# Altium footprint library PCB_LIB.PcbLib: 16 footprints
Each footprint in its own frame and in the unit in brackets; x right, y up, seen from the top. Pads: shape width x height; smd on the part's side, far side on the other; paste and mask are expansions set on the pad; w line width, h text height; cw(c..) or ccw(c..) is an arc to the next point about the centre after c.
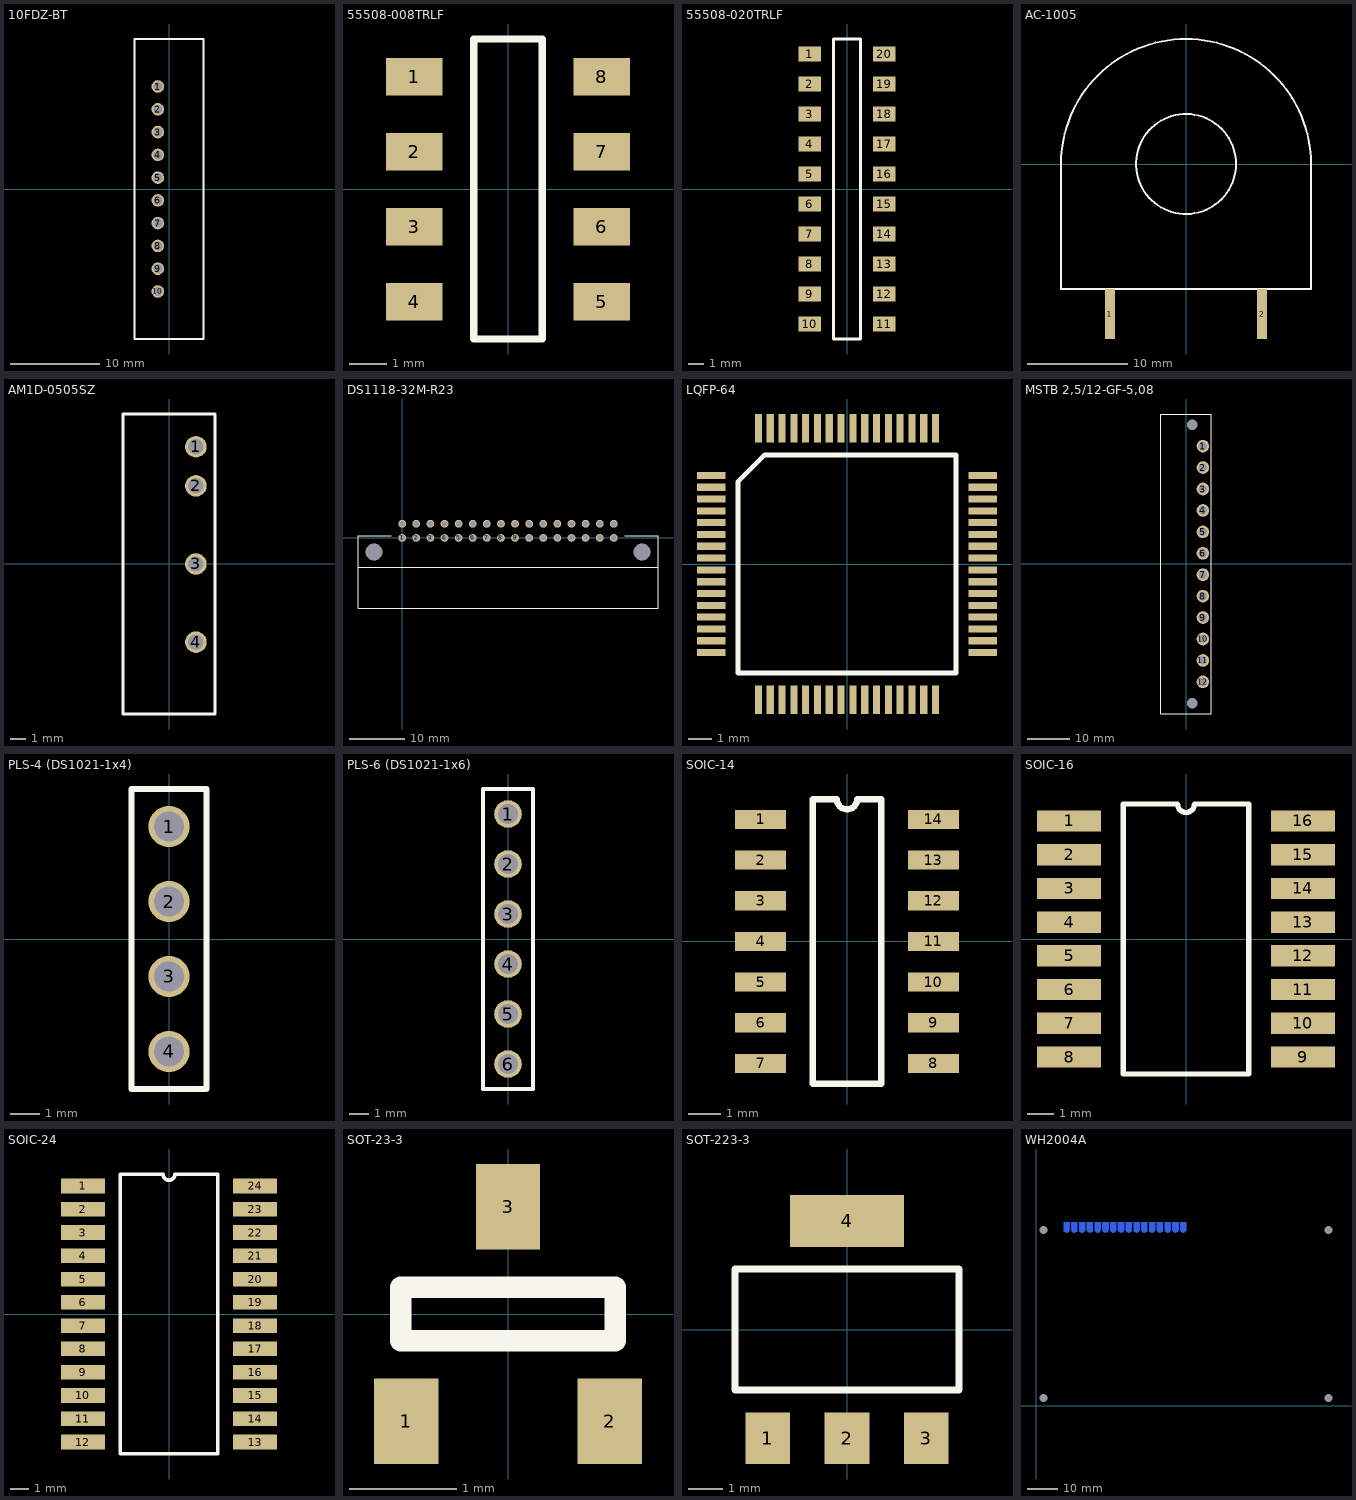
[diagram p0: the footprints below, top view; thin cyan lines are the x and y axes]

## 10FDZ-BT [mm] "10FDZ-BT"
pads (10):
  round 1.4 hole 1: 1(-1.25,11.43) 2(-1.25,8.89) 3(-1.25,6.35) 4(-1.25,3.81) 5(-1.25,1.27) 6(-1.25,-1.27) 7(-1.25,-3.81) 8(-1.25,-6.35) 9(-1.25,-8.89) 10(-1.25,-11.43)
Top Overlay:
  lines w0.2: -3.85,-16.73 3.85,-16.73 3.85,16.73 -3.85,16.73 -3.85,-16.73
3D body "10FDZ-BT.STEP": height 11.71, standoff -1.99, extent -3.85,-18.13 3.85,18.13

## 55508-008TRLF [mm] "55508-008TRLF"
pads (8):
  rect 1.5x1 smd: 1(-2.5,3) 2(-2.5,1) 3(-2.5,-1) 4(-2.5,-3) 5(2.5,-3) 6(2.5,-1) 7(2.5,1) 8(2.5,3)
Top Overlay:
  lines w0.2: -0.915,-4 -0.915,4 0.915,4 0.915,-4 -0.915,-4
3D body "55508-004TRLF.STEP": height 2.31, standoff 0.01, extent -3,0 3,3.92
3D body "55508-004TRLF.STEP": height 2.31, standoff 0.01, extent -3,-3.92 3,0

## 55508-020TRLF [mm] "55508-020TRLF"
pads (20):
  rect 1.5x1 smd: 1(-2.5,9) 2(-2.5,7) 3(-2.5,5) 4(-2.5,3) 5(-2.5,1) 6(-2.5,-1) 7(-2.5,-3) 8(-2.5,-5) 9(-2.5,-7) 10(-2.5,-9) 11(2.5,-9) 12(2.5,-7) 13(2.5,-5) 14(2.5,-3) 15(2.5,-1) 16(2.5,1) 17(2.5,3) 18(2.5,5) 19(2.5,7) 20(2.5,9)
Top Overlay:
  lines w0.2: -0.915,-10 -0.915,10 0.915,10 0.915,-10 -0.915,-10
3D body "55508-020TRLF.STEP": height 2.31, standoff 0.01, extent -3,-9.96 3,9.96

## AC-1005 [mm] "AC-1005"
pads (2):
  rect 1x5 smd: 1(-7.62,-15) 2(7.62,-15)
Top Overlay:
  circle w0.2: c0,0 r5
  lines w0.2: -12.5,-12.5 -12.5,0 cw(c0,0) 12.5,0 12.5,-12.5 -12.5,-12.5
3D body "AC-1005.stp": height 9.8, standoff -1.32, extent -11.91,-17.5 11.91,11.925

## AM1D-0505SZ [mm] "AM1D-0505SZ"
pads (4):
  round 1.4 hole 1: 1(1.745,7.62) 2(1.745,5.08) 3(1.745,0) 4(1.745,-5.08)
Top Overlay:
  lines w0.2: 2.995,-7.62 2.995,7.62 ; -3.005,-9.75 2.995,-9.75 2.995,9.75 -3.005,9.75 -3.005,-9.75
3D body "AM1D-0505SZ.STEP": height 10.01, standoff -3.04, extent -3.005,-9.75 3.005,9.75

## DS1118-32M-R23 [mm] "DS1118-32M-R23"
pads (34):
  round 1.4 hole 1: 1(0,0) 2(2.54,0) 3(5.08,0) 4(7.62,0) 5(10.16,0) 6(12.7,0) 7(15.24,0) 8(17.78,0) 9(20.32,0) 10(22.86,0) 11(25.4,0) 12(27.94,0) 13(30.48,0) 14(33.02,0) 15(35.56,0) 16(38.1,0) 17(38.1,2.54) 18(35.56,2.54) 19(33.02,2.54) 20(30.48,2.54) 21(27.94,2.54) 22(25.4,2.54) 23(22.86,2.54) 24(20.32,2.54) 25(17.78,2.54) 26(15.24,2.54) 27(12.7,2.54) 28(10.16,2.54) 29(7.62,2.54) 30(5.08,2.54) 31(2.54,2.54) 32(0,2.54)
  round 2 hole 3: ""(-5.08,-2.54) ""(43.18,-2.54)
Top Overlay:
  lines w0.2: -7.95,-5.3 46.05,-5.3 ; -1.95,0.36 -7.95,0.36 -7.95,-12.64 46.05,-12.64 46.05,0.36 40.05,0.36
3D body "DS1118-32M-R23.stp": height 6.87, standoff -2.99, extent -7.95,-12.64 46.055,2.838

## LQFP-64 [mm] "LQFP-64"
pads (64):
  rect 1.2x0.3 smd: 1(-5.75,3.75) 2(-5.75,3.25) 3(-5.75,2.75) 4(-5.75,2.25) 5(-5.75,1.75) 6(-5.75,1.25) 7(-5.75,0.75) 8(-5.75,0.25) 9(-5.75,-0.25) 10(-5.75,-0.75) 11(-5.75,-1.25) 12(-5.75,-1.75) 13(-5.75,-2.25) 14(-5.75,-2.75) 15(-5.75,-3.25) 16(-5.75,-3.75) 33(5.75,-3.75) 34(5.75,-3.25) 35(5.75,-2.75) 36(5.75,-2.25) 37(5.75,-1.75) 38(5.75,-1.25) 39(5.75,-0.75) 40(5.75,-0.25) 41(5.75,0.25) 42(5.75,0.75) 43(5.75,1.25) 44(5.75,1.75) 45(5.75,2.25) 46(5.75,2.75) 47(5.75,3.25) 48(5.75,3.75)
  rect 0.3x1.2 smd: 17(-3.75,-5.75) 18(-3.25,-5.75) 19(-2.75,-5.75) 20(-2.25,-5.75) 21(-1.75,-5.75) 22(-1.25,-5.75) 23(-0.75,-5.75) 24(-0.25,-5.75) 25(0.25,-5.75) 26(0.75,-5.75) 27(1.25,-5.75) 28(1.75,-5.75) 29(2.25,-5.75) 30(2.75,-5.75) 31(3.25,-5.75) 32(3.75,-5.75) 49(3.75,5.75) 50(3.25,5.75) 51(2.75,5.75) 52(2.25,5.75) 53(1.75,5.75) 54(1.25,5.75) 55(0.75,5.75) 56(0.25,5.75) 57(-0.25,5.75) 58(-0.75,5.75) 59(-1.25,5.75) 60(-1.75,5.75) 61(-2.25,5.75) 62(-2.75,5.75) 63(-3.25,5.75) 64(-3.75,5.75)
Top Overlay:
  lines w0.2: -4.615,-4.615 4.615,-4.615 4.615,4.615 -3.48,4.615 -4.615,3.48 -4.615,-4.615
3D body "LQFP-64.stp": height 1.61, standoff 0.01, extent -6,-6 6,6

## MSTB 2,5/12-GF-5,08 [mm] "MSTB 2,5/12-GF-5,08"
pads (14):
  round 3 hole 2: 1(3.999,27.94) 2(3.999,22.86) 3(3.999,17.78) 4(3.999,12.7) 5(3.999,7.62) 6(3.999,2.54) 7(3.999,-2.54) 8(3.999,-7.62) 9(3.999,-12.7) 10(3.999,-17.78) 11(3.999,-22.86) 12(3.999,-27.94)
  round 0 hole 2.5: ""(1.499,-33.02) ""(1.499,33.02)
Top Overlay:
  lines w0.2: -6.001,-35.56 -6.001,35.56 5.999,35.56 5.999,-35.56 -6.001,-35.56
3D body "MSTB 2,512-GF-5,08.stp": height 9.11, standoff -2.99, extent -6.001,-35.56 6.001,35.56

## PLS-4 (DS1021-1x4) [mm] "PLS-4 (DS1021-1x4)"
pads (4):
  round 1.4 hole 1: 1(0,3.81) 2(0,1.27) 3(0,-1.27) 4(0,-3.81)
Top Overlay:
  lines w0.2: -1.27,-5.08 -1.27,5.08 1.27,5.08 1.27,-5.08 -1.27,-5.08
3D body "PLS(DS1021).STEP": height 8.61, standoff -2.99, extent -1.27,2.54 1.27,5.08
3D body "PLS(DS1021).STEP": height 8.61, standoff -2.99, extent -1.27,0 1.27,2.54
3D body "PLS(DS1021).STEP": height 8.61, standoff -2.99, extent -1.27,-2.54 1.27,0
3D body "PLS(DS1021).STEP": height 8.61, standoff -2.99, extent -1.27,-5.08 1.27,-2.54

## PLS-6 (DS1021-1x6) [mm] "PLS-6 (DS1021-1x6)"
pads (6):
  round 1.4 hole 1: 1(0,6.35) 2(0,3.81) 3(0,1.27) 4(0,-1.27) 5(0,-3.81) 6(0,-6.35)
Top Overlay:
  lines w0.2: -1.27,-7.62 -1.27,7.62 1.27,7.62 1.27,-7.62 -1.27,-7.62
3D body "PLS(DS1021).STEP": height 8.61, standoff -2.99, extent -1.27,-7.62 1.27,-5.08
3D body "PLS(DS1021).STEP": height 8.61, standoff -2.99, extent -1.27,-5.08 1.27,-2.54
3D body "PLS(DS1021).STEP": height 8.61, standoff -2.99, extent -1.27,-2.54 1.27,0
3D body "PLS(DS1021).STEP": height 8.61, standoff -2.99, extent -1.27,0 1.27,2.54
3D body "PLS(DS1021).STEP": height 8.61, standoff -2.99, extent -1.27,2.54 1.27,5.08
3D body "PLS(DS1021).STEP": height 8.61, standoff -2.99, extent -1.27,5.08 1.27,7.62

## SOIC-14 [mm] "SOIC-14"
pads (14):
  rect 1.6x0.6 smd: 1(-2.7,3.81) 2(-2.7,2.54) 3(-2.7,1.27) 4(-2.7,0) 5(-2.7,-1.27) 6(-2.7,-2.54) 7(-2.7,-3.81) 8(2.7,-3.81) 9(2.7,-2.54) 10(2.7,-1.27) 11(2.7,0) 12(2.7,1.27) 13(2.7,2.54) 14(2.7,3.81)
Top Overlay:
  lines w0.2: -1.065,-4.445 1.065,-4.445 1.065,4.445 0.318,4.445 cw(c0,4.445) -0.318,4.445 -1.065,4.445 -1.065,-4.445
3D body "SOIC-14.stp": height 1.75, standoff 0, extent -3,-4.325 3,4.325

## SOIC-16 [mm] "SOIC-16"
pads (16):
  rect 2.4x0.8 smd: 1(-4.4,4.445) 2(-4.4,3.175) 3(-4.4,1.905) 4(-4.4,0.635) 5(-4.4,-0.635) 6(-4.4,-1.905) 7(-4.4,-3.175) 8(-4.4,-4.445) 9(4.4,-4.445) 10(4.4,-3.175) 11(4.4,-1.905) 12(4.4,-0.635) 13(4.4,0.635) 14(4.4,1.905) 15(4.4,3.175) 16(4.4,4.445)
Top Overlay:
  lines w0.2: -2.365,-5.08 -2.365,5.08 -0.318,5.08 ccw(c0,5.08) 0.317,5.08 2.365,5.08 2.365,-5.08 -2.365,-5.08
3D body "SOIC-16.STEP": height 2.66, standoff 0.01, extent -5.315,-5.25 5.315,5.25

## SOIC-24 [mm] "SOIC-24"
pads (24):
  rect 2.4x0.8 smd: 1(-4.7,6.985) 2(-4.7,5.715) 3(-4.7,4.445) 4(-4.7,3.175) 5(-4.7,1.905) 6(-4.7,0.635) 7(-4.7,-0.635) 8(-4.7,-1.905) 9(-4.7,-3.175) 10(-4.7,-4.445) 11(-4.7,-5.715) 12(-4.7,-6.985) 13(4.7,-6.985) 14(4.7,-5.715) 15(4.7,-4.445) 16(4.7,-3.175) 17(4.7,-1.905) 18(4.7,-0.635) 19(4.7,0.635) 20(4.7,1.905) 21(4.7,3.175) 22(4.7,4.445) 23(4.7,5.715) 24(4.7,6.985)
Top Overlay:
  lines w0.2: -2.665,-7.62 2.665,-7.62 2.665,7.62 0.317,7.62 cw(c0,7.62) -0.318,7.62 -2.665,7.62 -2.665,-7.62
3D body "SOIC-24.stp": height 2.66, standoff 0.01, extent -5.15,-7.7 5.15,7.7

## SOT-23-3 [mm] "SOT-23-3"
pads (3):
  rect 0.6x0.8 smd: 1(-0.95,-1) 2(0.95,-1) 3(0,1)
Top Overlay:
  lines w0.2: -1,-0.25 -1,0.25 1,0.25 1,-0.25 -1,-0.25
3D body "SOT-23-3.stp": height 0.96, standoff 0.01, extent -1.45,-1.251 1.45,1.15

## SOT-223-3 [mm] "SOT-223-3"
pads (4):
  rect 1.3x1.5 smd: 1(-2.3,-3.15) 2(0,-3.15) 3(2.3,-3.15)
  rect 3.3x1.5 smd: 4(0,3.15)
Top Overlay:
  lines w0.2: -3.25,-1.75 3.25,-1.75 3.25,1.75 -3.25,1.75 -3.25,-1.75
3D body "SOT-223-3.stp": height 1.81, standoff 0.01, extent -3.25,-3.5 3.25,3.5

## WH2004A [mm] "WH2004A"
pads (36):
  round 2 smd far side: 1(10,57.6) 2(12.54,57.6) 3(15.08,57.6) 4(17.62,57.6) 5(20.16,57.6) 6(22.7,57.6) 7(25.24,57.6) 8(27.78,57.6) 9(30.32,57.6) 10(32.86,57.6) 11(35.4,57.6) 12(37.94,57.6) 13(40.48,57.6) 14(43.02,57.6) 15(45.56,57.6) 16(48.1,57.6)
  rect 2x2.4 smd far side: 1(10,58.8) 2(12.54,58.8) 3(15.08,58.8) 4(17.62,58.8) 5(20.16,58.8) 6(22.7,58.8) 7(25.24,58.8) 8(27.78,58.8) 9(30.32,58.8) 10(32.86,58.8) 11(35.4,58.8) 12(37.94,58.8) 13(40.48,58.8) 14(43.02,58.8) 15(45.56,58.8) 16(48.1,58.8)
  round 0 hole 2.6: ""(2.5,2.5) ""(2.5,57.5) ""(95.5,2.5) ""(95.5,57.5)
Bottom Overlay:
  lines w0.2: 0,0 98,0 98,60 0,60 0,0
3D body "WH2004A.STEP": height 9.14, standoff -2.91, extent 0,0 98,60